# EAGLE library part 74*151 (library kmod-ics)
8-to-1 multiplexer I believe this is compatible with 74*251 and 74*3251 parts as well, though the behavior of those parts are slightly different. (251 has tri-stated outputs if not enabled, and the 3251 is an analog switch.) Note that 3251 parts often come in slightl different packages: 3.9mm-width with 0.635mm pitch (vs 4.4mm-width and 0.65mm pitch).
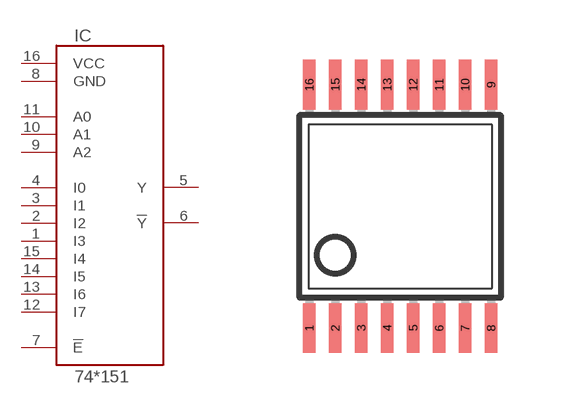
[diagram p16: symbol with the pads of TSSOP16; footprint TSSOP16]

Designator prefix IC

## 74151  [TSSOP16]
1  I3
2  I2
3  I1
4  I0
5  Y
6  !Y
7  !E
8  GND
9  A2
10  A1
11  A0
12  I7
13  I6
14  I5
15  I4
16  VCC

## Footprint TSSOP16 (pad centres in mm)
Thin Shrink Small Outline Plastic 16, 4.40mm width Forget where I copied it from. Same thoughts as the TSSOP-14: works well but maybe could lengthen the pads. - ok made them longer by 10mil (0.25mm); they now stick past the end by about 0.5mm
smd 0.305 x 1.245: 1 -2.275,-3.045; 2 -1.625,-3.045; 3 -0.975,-3.045; 4 -0.325,-3.045; 5 0.325,-3.045; 6 0.975,-3.045; 7 1.625,-3.045; 8 2.275,-3.045; 9 2.275,3.045; 10 1.625,3.045; 11 0.975,3.045; 12 0.325,3.045; 13 -0.325,3.045; 14 -0.975,3.045; 15 -1.625,3.045; 16 -2.275,3.045